# EAGLE library part SN74HC595MPWREP (library 74HC595)
8-BIT SHIFT REGISTERS WITH 3-STATE OUTPUT REGISTERS
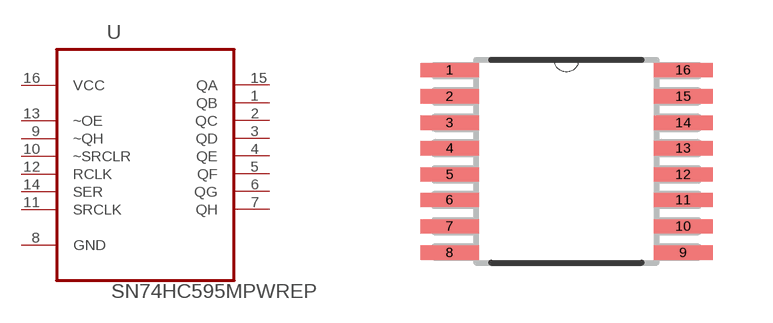
[diagram p0: symbol with the pads of SOP65P640X120-16N; footprint SOP65P640X120-16N]

Designator prefix U

## SN74HC595MPWREP (Description: Enhanced Product 8-Bit Shift Registers With 3-State Output Registers 16-TSSOP -55 to 125; Digi-Key_Part_Number: 296-27413-1-ND; Digi-Key_Purchase_URL: https://www.digikey.com.tr/product-detail/en/texas-instruments/SN74HC595MPWREP/296-27413-1-ND/2288061?utm_source=snapeda&utm_medium=aggregator&utm_campaign=symbol; MF: Texas Instruments; MP: SN74HC595MPWREP; Package: TSSOP-16 Texas Instruments)  [SOP65P640X120-16N]
1  QB  out
2  QC  out
3  QD  out
4  QE  out
5  QF  out
6  QG  out
7  QH  out
8  GND  pas
9  ~QH  in
10  ~SRCLR  in
11  SRCLK  in
12  RCLK  in
13  ~OE  in
14  SER  in
15  QA  out
16  VCC  pwr

## Footprint SOP65P640X120-16N (pad centres in mm)
smd 1.473 x 0.356: 1 -2.921,2.286; 2 -2.921,1.626; 3 -2.921,0.965; 4 -2.921,0.33; 5 -2.921,-0.33; 6 -2.921,-0.965; 7 -2.921,-1.626; 8 -2.921,-2.286; 9 2.921,-2.286; 10 2.921,-1.626; 11 2.921,-0.965; 12 2.921,-0.33; 13 2.921,0.33; 14 2.921,0.965; 15 2.921,1.626; 16 2.921,2.286